# Altium schematic symbol library LM1770.SchLib: 1 symbol
Pins are listed as number, name and electrical type; pins without a type are passive.

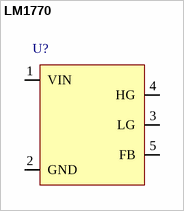
[diagram p0: symbol LM1770]

## LM1770
designator U?  (value not drawn)
pins: 1 VIN, 2 GND, 3 LG, 4 HG, 5 FB